# Altium footprint library Library.PcbLib: 124 footprints (part 4 of 8)
Each footprint in its own frame and in the unit in brackets; x right, y up, seen from the top. Pads: shape width x height; smd on the part's side, far side on the other; paste and mask are expansions set on the pad; w line width, h text height; cw(c..) or ccw(c..) is an arc to the next point about the centre after c.
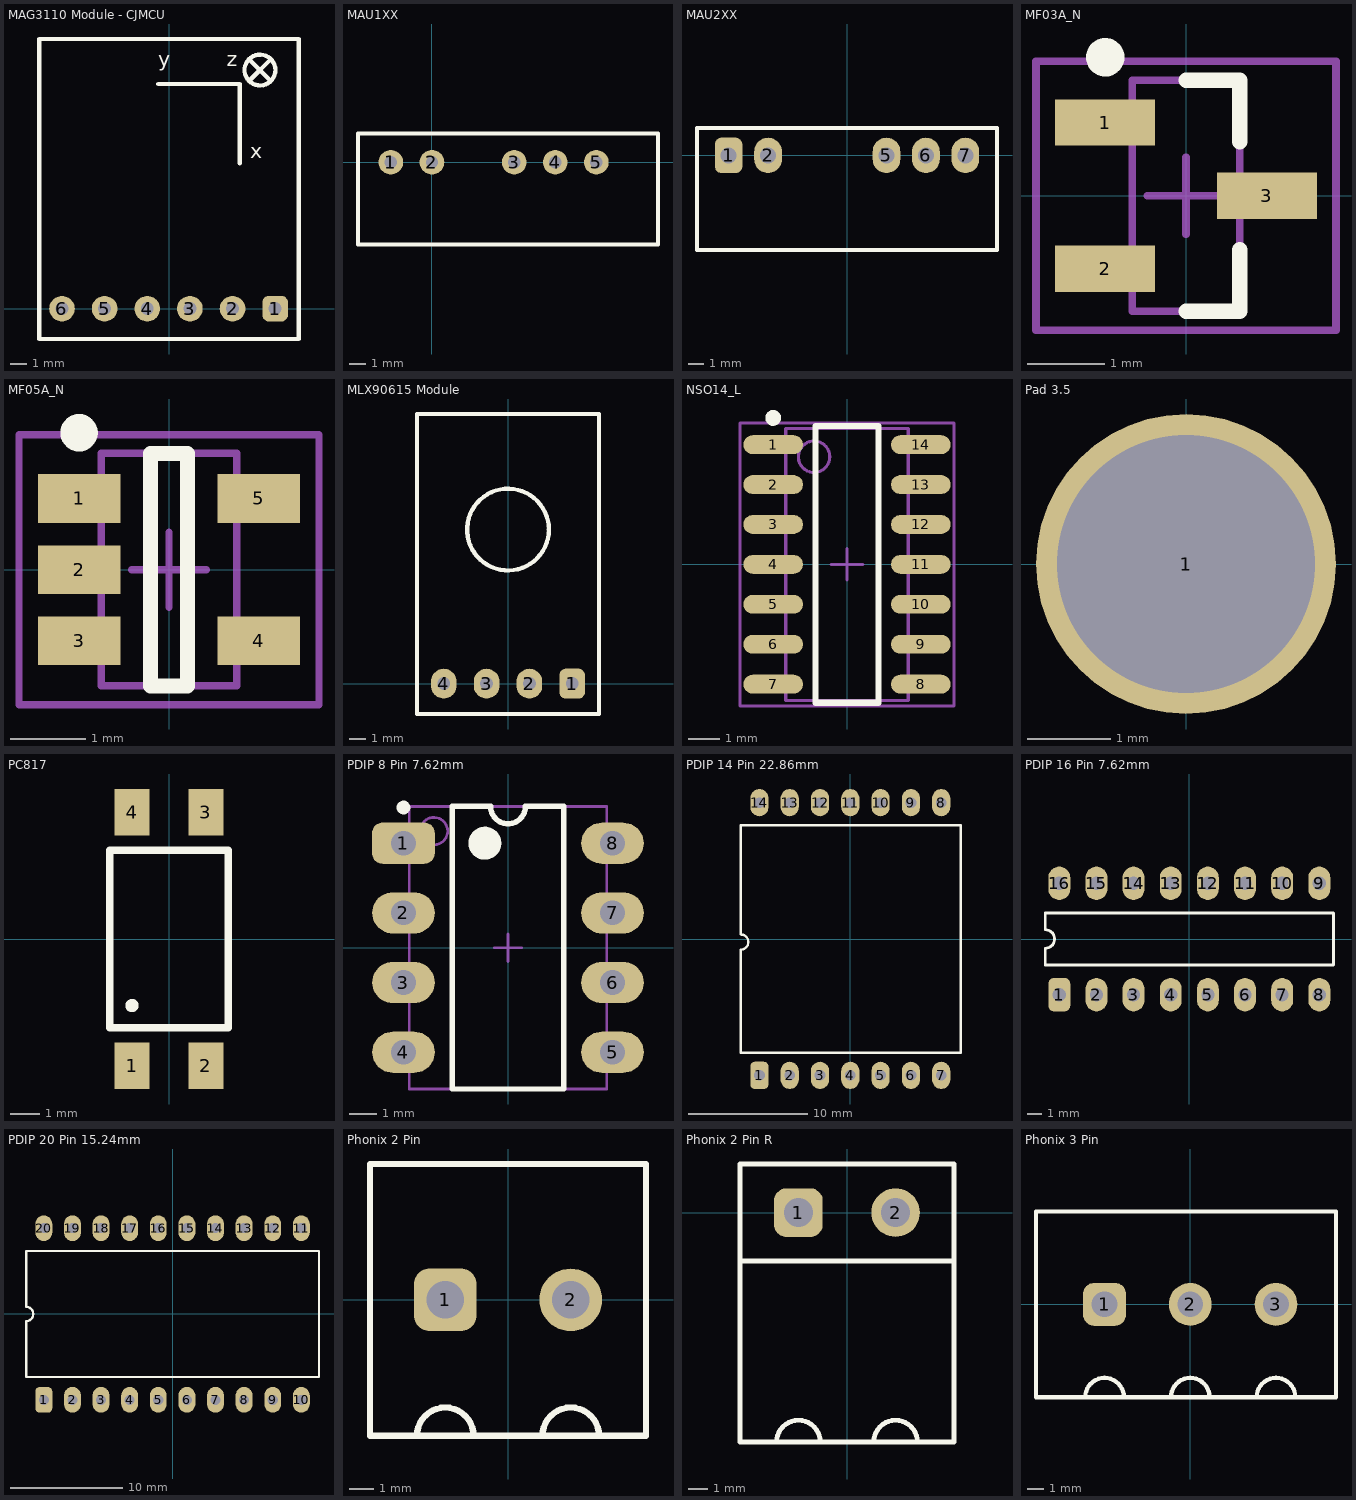
[diagram p3: the footprints below, top view; thin cyan lines are the x and y axes]

## MAG3110 Module - CJMCU [mil] "MAG3110 Module (Blue PCB)"
height 196.85
pads (6):
  rrect50% 60x60 hole 30: 1(248.03,0)
  round 60 hole 30: 2(148.43,0) 3(48.82,0) 4(-50.79,0) 5(-150.39,0) 6(-250,0)
Top Overlay:
  circle w10: c212.5,557.5 r36.06
  lines w10: -303.15,629.92 -303.15,-70.87 303.15,-70.87 303.15,630 -303.15,630 ; -25,525 165,525 165,340 ; 190,535 235,580 ; 190,580 235,535
  text "z" at 135,555 h60
  text "y" at -25,555 h60
  text "x" at 190,340 h60

## MAU1XX [mil]
pads (5):
  round 60 hole 30: 1(-100,0) 2(0,0) 3(200,0) 4(300,0) 5(400,0)
Top Overlay:
  lines w10: -180,-200 550,-200 550,70 -180,70 -180,-200

## MAU2XX [mil] "MAU2XX"
height 401.57
pads (5):
  rrect50% 70x90 hole 40: 1(-300,0)
  oval 70x90 hole 40: 2(-200,0) 5(100,0) 6(200,0) 7(300,0)
Top Overlay:
  lines w10: -380,-240 380,-240 380,70 -380,70 -380,-240

## MF03A_N [mm] "SOT23, 3-Leads, Body 2.9x1.3mm, Pitch 0.95mm, Lead Span 2.4mm, IPC Medium Density"
height 1.12
pads (3):
  rect 1.3x0.6 smd: 1(-1.05,0.95) 2(-1.05,-0.95) 3(1.05,0)
Top Overlay:
  circle w0.25: c-1.05,1.8 r0.125
  lines w0.2: 0,-1.5 0.7,-1.5 0.7,-0.7 ; 0,1.5 0.7,1.5 0.7,0.7
Mechanical 13:
  lines w0.1: -0.7,-1.5 -0.7,1.5 0.7,1.5 0.7,-1.5 -0.7,-1.5
Mechanical 15:
  lines w0.1: -0.5,0 0.5,0 ; 0,-0.5 0,0.5 ; -1.95,-1.75 -1.95,1.75 1.95,1.75 1.95,-1.75 -1.95,-1.75
3D body: height 1.12, standoff 0, extent -0.7,-1.5 0.7,1.5

## MF05A_N [mm] "SOT23, 5-Leads, Body 2.9x1.6mm, Pitch 0.95mm, Lead Span 2.8mm, IPC Medium Density"
height 1.19
pads (5):
  rect 1.1x0.65 smd: 1(-1.2,0.95) 2(-1.2,0) 3(-1.2,-0.95) 4(1.2,-0.95) 5(1.2,0.95)
Top Overlay:
  circle w0.25: c-1.2,1.825 r0.125
  lines w0.2: -0.25,-1.55 0.25,-1.55 0.25,1.55 -0.25,1.55 -0.25,-1.55
Mechanical 13:
  lines w0.1: -0.9,-1.55 -0.9,1.55 0.9,1.55 0.9,-1.55 -0.9,-1.55
Mechanical 15:
  lines w0.1: -0.5,0 0.5,0 ; 0,-0.5 0,0.5 ; -2,-1.8 -2,1.8 2,1.8 2,-1.8 -2,-1.8
3D body: height 1.19, standoff 0, extent -0.9,-1.55 0.9,1.55

## MLX90615 Module [mil] "MLX90615 Module"
height 393.7
pads (4):
  rrect50% 60x70 hole 30: 1(150,0)
  oval 60x70 hole 30: 2(50,0) 3(-50,0) 4(-150,0)
Top Overlay:
  circle w10: c0,360 r95.52
  lines w10: -212.6,-70.87 212.6,-70.87 212.6,629.92 ; -212.6,630 212.6,630 ; -212.4,-70.87 -212.4,629.92

## NSO14_L [mm] "14-Pin Small Outline Integrated Circuit 1.27 mm Pitch, IPC High Density"
height 1.75
pads (14):
  oval 1.9x0.6 smd: 1(-2.35,3.81) 2(-2.35,2.54) 3(-2.35,1.27) 4(-2.35,0) 5(-2.35,-1.27) 6(-2.35,-2.54) 7(-2.35,-3.81) 8(2.35,-3.81) 9(2.35,-2.54) 10(2.35,-1.27) 11(2.35,0) 12(2.35,1.27) 13(2.35,2.54) 14(2.35,3.81)
Top Overlay:
  circle w0.25: c-2.35,4.66 r0.125
  lines w0.2: -1,-4.4 -1,4.4 1,4.4 1,-4.4 -1,-4.4
Mechanical 13:
  circle w0.1: c-1.05,3.425 r0.5
  lines w0.1: -1.95,-4.325 -1.95,4.325 1.95,4.325 1.95,-4.325 -1.95,-4.325
Mechanical 15:
  lines w0.1: -0.5,0 0.5,0 ; 0,-0.5 0,0.5 ; -3.4,-4.5 -3.4,4.5 3.4,4.5 3.4,-4.5 -3.4,-4.5
3D body: height 1.75, standoff 0, extent -1.95,-4.325 1.95,4.325

## Pad 3.5 [mm]
pads (1):
  round 3.6 hole 3.1: 1(0,0)

## PC817 [mm]
height 4
pads (4):
  rect 1.2x1.6 smd: 1(-1.27,-4.35) 2(1.27,-4.35) 3(1.27,4.35) 4(-1.27,4.35)
Top Overlay:
  circle w0.254: c-1.27,-2.286 r0.1
  lines w0.254: -2.032,-3.048 -2.032,3.048 2.032,3.048 2.032,-3.048 -2.032,-3.048

## PDIP 8 Pin 7.62mm [mm] "DIP, 8-Leads, Row Spacing 7.62mm, Pitch 2.54mm, Body 9.5x6.6mm"
height 5.34
pads (8):
  rrect50% 2.286x1.5 hole 0.9: 1(-3.81,3.81)
  oval 2.286x1.5 hole 0.9: 2(-3.81,1.27) 3(-3.81,-1.27) 4(-3.81,-3.81) 5(3.81,-3.81) 6(3.81,-1.27) 7(3.81,1.27) 8(3.81,3.81)
Top Overlay:
  circle w0.6: c-0.843,3.81 r0.3
  circle w0.25: c-3.81,5.11 r0.125
  lines w0.2: -2.032,-5.15 2.032,-5.15 2.032,5.15 0.635,5.15 cw(c0,5.15) -0.635,5.15 -2.032,5.15 -2.032,-5.15
Mechanical 13:
  circle w0.1: c-2.7,4.25 r0.5
  lines w0.1: -3.6,-5.15 3.6,-5.15 3.6,5.15 -3.6,5.15 -3.6,-5.15
Mechanical 15:
  lines w0.1: -0.5,0 0.5,0 ; 0,-0.5 0,0.5
3D body: height 5.34, standoff 0, extent -3.6,-5.15 3.6,5.15

## PDIP 14 Pin 22.86mm [mil] "DIP; 14 Leads; Row Spacing 22.86 mm; Pitch 2.54 mm"
height 209.84
pads (14):
  rrect50% 60x90 hole 35.43: 1(-300,-450)
  oval 60x90 hole 35.43: 2(-200,-450) 3(-100,-450) 4(0,-450) 5(100,-450) 6(200,-450) 7(300,-450) 8(300,450) 9(200,450) 10(100,450) 11(0,450) 12(-100,450) 13(-200,450) 14(-300,450)
Top Overlay:
  lines w7.87: -361.81,-375 365,-375 365,375 -361.81,375 -361.81,15 cw(c-361.81,-10) -361.81,-35 -361.81,-375

## PDIP 16 Pin 7.62mm [mm] "DIP; 16 Leads; Row Spacing 7.62 mm; Pitch 2.54 mm"
height 4.44
pads (16):
  rrect50% 1.5x2.286 hole 0.9: 1(-8.89,-3.81)
  oval 1.5x2.286 hole 0.9: 2(-6.35,-3.81) 3(-3.81,-3.81) 4(-1.27,-3.81) 5(1.27,-3.81) 6(3.81,-3.81) 7(6.35,-3.81) 8(8.89,-3.81) 9(8.89,3.81) 10(6.35,3.81) 11(3.81,3.81) 12(1.27,3.81) 13(-1.27,3.81) 14(-3.81,3.81) 15(-6.35,3.81) 16(-8.89,3.81)
Top Overlay:
  lines w0.2: -9.85,-1.778 9.85,-1.778 9.85,1.778 -9.85,1.778 -9.85,0.635 cw(c-9.85,0) -9.85,-0.635 -9.85,-1.778

## PDIP 20 Pin 15.24mm [mm] "DIP; 20 Leads; Row Spacing 15.24 mm; Pitch 2.54 mm"
height 5.33
pads (20):
  rrect50% 1.5x2.286 hole 0.9: 1(-11.43,-7.62)
  oval 1.5x2.286 hole 0.9: 2(-8.89,-7.62) 3(-6.35,-7.62) 4(-3.81,-7.62) 5(-1.27,-7.62) 6(1.27,-7.62) 7(3.81,-7.62) 8(6.35,-7.62) 9(8.89,-7.62) 10(11.43,-7.62) 11(11.43,7.62) 12(8.89,7.62) 13(6.35,7.62) 14(3.81,7.62) 15(1.27,7.62) 16(-1.27,7.62) 17(-3.81,7.62) 18(-6.35,7.62) 19(-8.89,7.62) 20(-11.43,7.62)
Top Overlay:
  lines w0.2: -13,-5.588 -13,-0.635 ccw(c-13,0) -13,0.635 -13,5.588 13,5.588 13,-5.588 -13,-5.588

## Phonix 2 Pin [mil] "Phonix Terminal 2 Pin"
height 314.96
pads (2):
  rrect50% 100x100 hole 60: 1(-100,0)
  round 100 hole 60: 2(100,0)
Top Overlay:
  lines w10: -144.56,-210.06 cw(c-100,-216.54) -55.44,-210.06 ; 55.44,-210.06 cw(c100,-216.54) 144.56,-210.06 ; -220,-216.54 220,-216.54 220,216.54 -220,216.54 -220,-216.54

## Phonix 2 Pin R [mil] "Phonix Terminal 2 Pin Right"
height 314.96
pads (2):
  rrect50% 100x100 hole 60: 1(-100,0)
  round 100 hole 60: 2(100,0)
Top Overlay:
  lines w10: -220,-100 220,-100 ; -144.56,-465.97 cw(c-100,-472.44) -55.44,-465.97 ; 55.44,-465.97 cw(c100,-472.44) 144.56,-465.97 ; -220,-472.44 220,-472.44 220,100 -220,100 -220,-472.44

## Phonix 3 Pin [mil] "Phonix Terminal 3 Pin"
height 314.96
pads (3):
  rrect50% 100x100 hole 60: 1(-200,0)
  round 100 hole 60: 2(0,0) 3(200,0)
Top Overlay:
  lines w10: -244.56,-210.06 cw(c-200,-216.54) -155.44,-210.06 ; -44.56,-210.06 cw(c0,-216.54) 44.56,-210.06 ; 155.44,-210.06 cw(c200,-216.54) 244.56,-210.06 ; -360,-216.54 -360,216.54 340,216.54 340,-216.54 -360,-216.54